# EAGLE library part MAX31855 (library mille-feuille)
The MAX31855 performs cold-junction compensation and digitizes the signal from a K-, J-, N-, T-, S-, R-, or E-type thermocouple. The data is output in a signed 14-bit, SPI-compatible, read-only format. This converter resolves temperatures to 0.25°C, allows readings as high as +1800°C and as low as -270°C, and exhibits thermocouple accuracy of ±2°C for temperatures ranging from -200°C to +700°C for K-type thermocouples. For full range accuracies and other thermocouple types, see the Thermal Characteristics specifications.
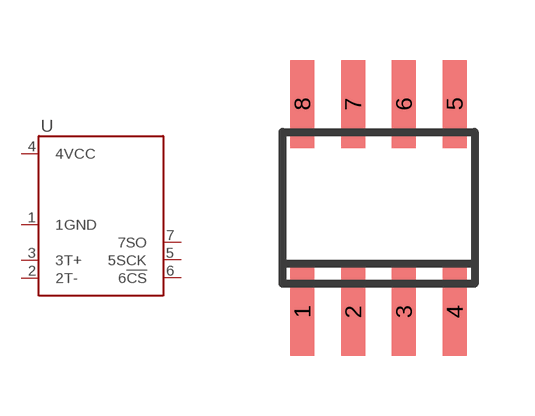
[diagram p25: symbol with the pads of SO-8; footprint SO-8]

Designator prefix U

## MAX31855KASA  [SO-8]
1  1GND
2  2T-
3  3T+
4  4VCC
5  5SCK
6  6!CS!
7  7SO

## Footprint SO-8 (pad centres in mm)
smd 0.6 x 2.2: 1 -1.905,-2.6; 2 -0.635,-2.6; 3 0.635,-2.6; 4 1.905,-2.6; 5 1.905,2.6; 6 0.635,2.6; 7 -0.635,2.6; 8 -1.905,2.6